# EAGLE library part UCC28700 (library derek)
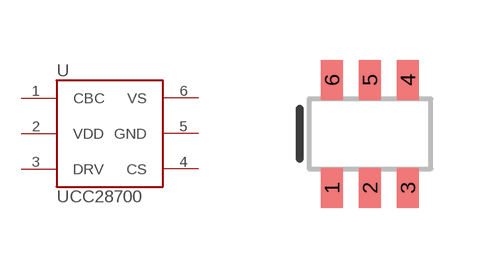
[diagram p1: symbol with the pads of SOT-23(6); footprint SOT-23(6)]

Designator prefix U

## UCC28700 (DATASHEET_URL: http://www.ti.com/lit/ds/symlink/ucc28700.pdf; DIGIKEY_PART_NUMBER: 296-39536-1-ND; MANUFACTURER: Texas Instruments; PART_NUMBER: UCC28700DBVR)  [SOT-23(6)]
1  CBC
2  VDD
3  DRV
4  CS
5  GND
6  VS

## Footprint SOT-23(6) (pad centres in mm)
smd 0.55 x 1: 1 -0.95,-1.35; 2 0,-1.35; 3 0.95,-1.35; 4 0.95,1.35; 5 0,1.35; 6 -0.95,1.35